# Altium footprint library MOLEX_1050570001.PcbLib: 1 footprints
Each footprint in its own frame and in the unit in brackets; x right, y up, seen from the top. Pads: shape width x height; smd on the part's side, far side on the other; paste and mask are expansions set on the pad; w line width, h text height; cw(c..) or ccw(c..) is an arc to the next point about the centre after c.
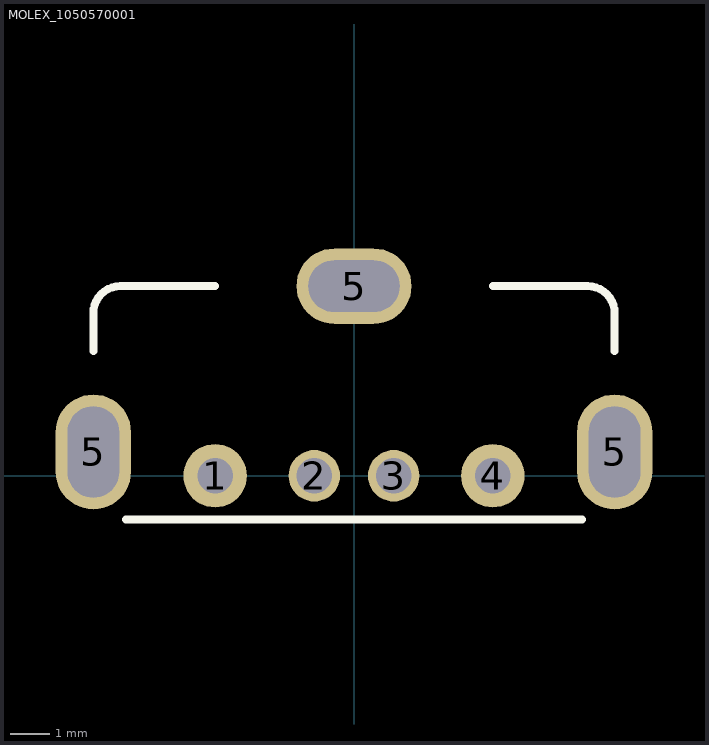
[diagram p0: the footprint, top view; thin cyan lines are the x and y axes]

## MOLEX_1050570001 [mm] "Molex Vertical USB A"
pads (7):
  round 1.6 hole 0.9 unplated: 1(-3.5,0) 4(3.5,0)
  round 1.3 hole 0.9 unplated: 2(-1,0) 3(1,0)
  oval 1.9x2.9 hole 1.3 slot 2.3 at 90 deg: 5(-6.57,0.6) 5(6.57,0.6)
  oval 2.9x1.9 hole 1.3 slot 2.3 at 0 deg: 5(0,4.78)
Top Overlay:
  lines w0.2: -6.57,3.15 -6.57,4.1 cw(c-5.89,4.1) -5.89,4.78 -3.5,4.78 ; -5.75,-1.1 5.75,-1.1 ; 3.5,4.78 5.89,4.78 cw(c5.89,4.1) 6.57,4.1 6.57,3.15
3D body "1050570001.stp": height 10.5, standoff -3.8, extent -7.337,-1.725 7.337,5.559